# Altium footprint library J 接插件.PcbLib: 458 footprints (part 1 of 29)
Each footprint in its own frame and in the unit in brackets; x right, y up, seen from the top. Pads: shape width x height; smd on the part's side, far side on the other; paste and mask are expansions set on the pad; w line width, h text height; cw(c..) or ccw(c..) is an arc to the next point about the centre after c.
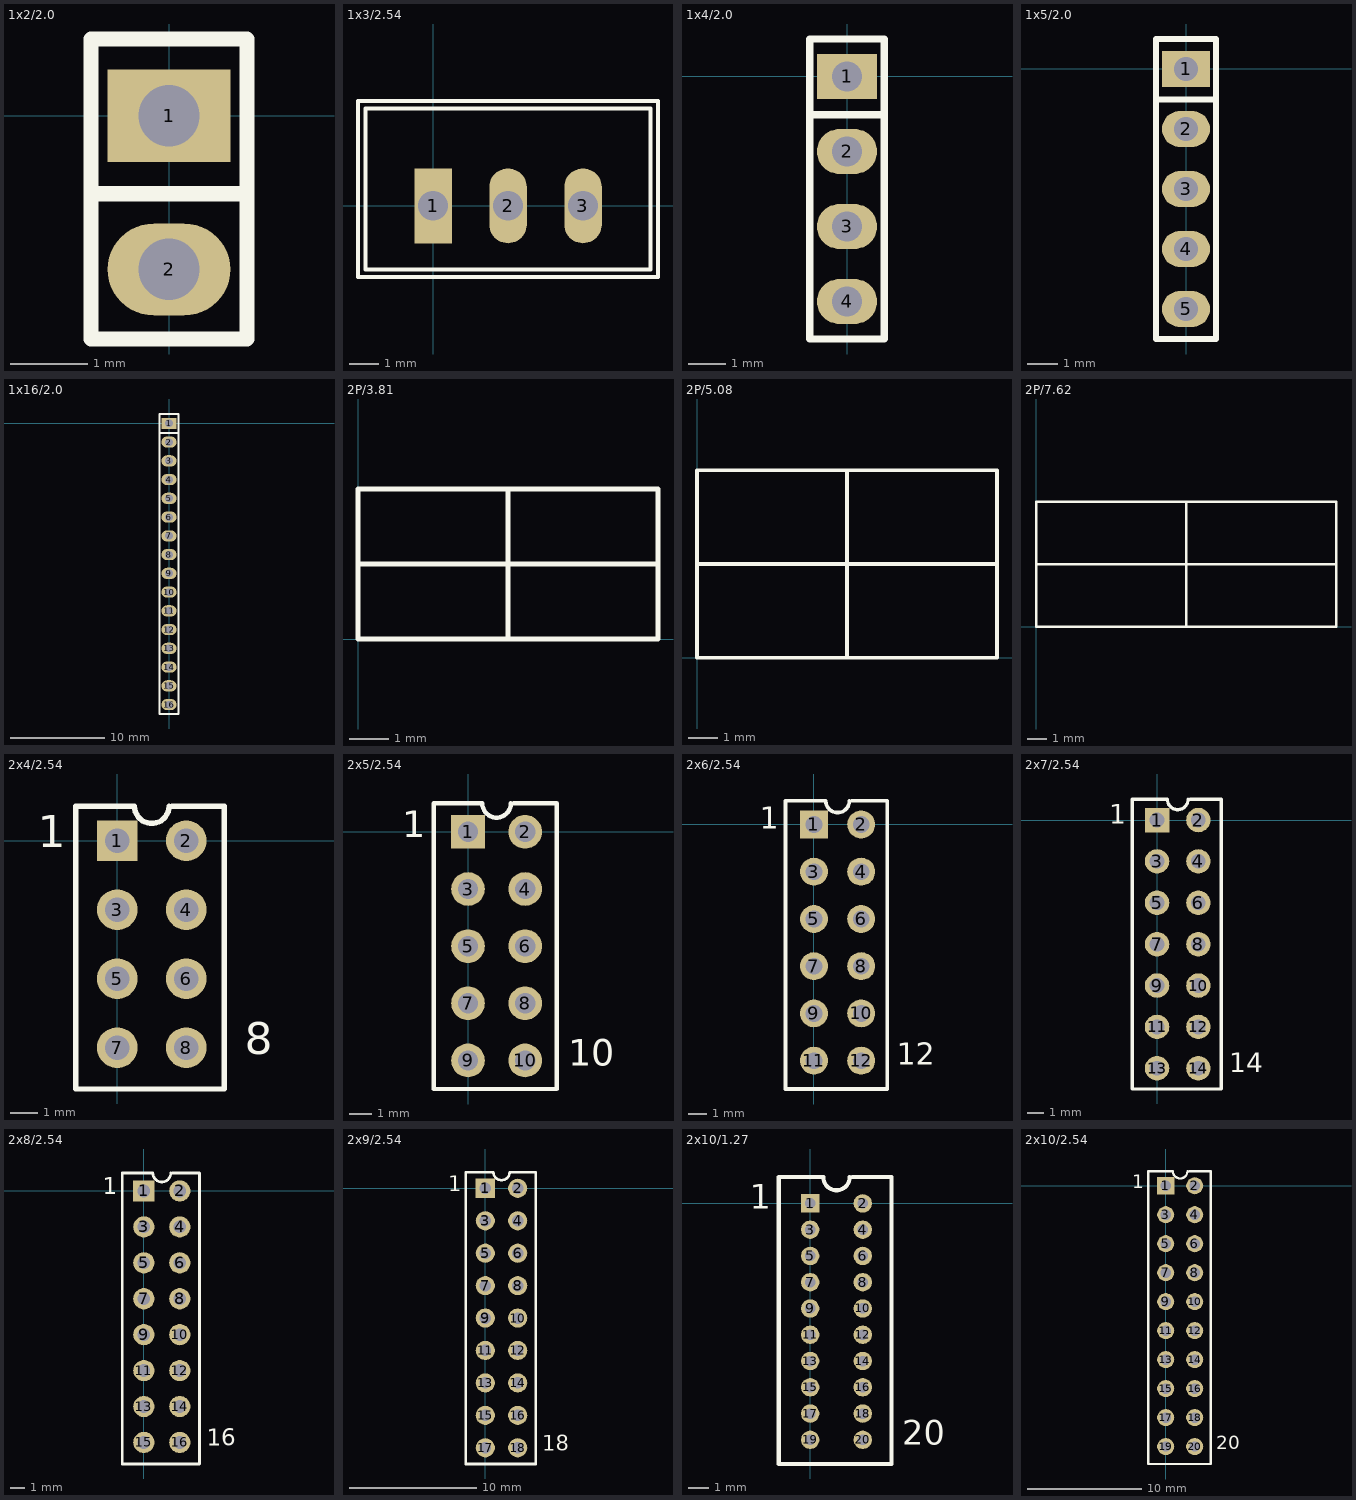
[diagram p0: the footprints below, top view; thin cyan lines are the x and y axes]

## 1x2/2.0 [mm] "直插，间距：2.0mm，PIN数：2"
pads (2):
  rect 1.6x1.2 hole 0.8: 1(0,0)
  oval 1.6x1.2 hole 0.8: 2(0,-2)
Top Overlay:
  lines w0.2: -1.016,-1.016 1.016,-1.016 ; -1.016,-2.905 1.016,-2.905 1.016,1 -1.016,1 -1.016,-2.905

## 1x3/2.54 [mm]
pads (3):
  rect 1.27x2.54 hole 1: 1(0,0)
  oval 1.27x2.54 hole 1: 2(2.54,0) 3(5.08,0)
Top Overlay:
  lines w0.127: -2.54,-2.413 -2.54,3.556 7.62,3.556 7.62,-2.413 -2.54,-2.413 ; -2.286,-2.159 -2.286,3.302 7.366,3.302 7.366,-2.159 -2.286,-2.159

## 1x4/2.0 [mm] "直插，间距：2.0mm，PIN数：4"
pads (4):
  rect 1.6x1.2 hole 0.8: 1(0,0)
  oval 1.6x1.2 hole 0.8: 2(0,-2) 3(0,-4) 4(0,-6)
Top Overlay:
  lines w0.2: -1,-1.016 1,-1.016 ; -1,-7 1,-7 1,1 -1,1 -1,-7

## 1x5/2.0 [mm] "直插，间距：2.0mm，PIN数：5"
pads (5):
  rect 1.6x1.2 hole 0.8: 1(0,0)
  oval 1.6x1.2 hole 0.8: 2(0,-2) 3(0,-4) 4(0,-6) 5(0,-8)
Top Overlay:
  lines w0.2: -1,-1.016 1,-1.016 ; -1,-9 -1,1 1,1 1,-9 -1,-9

## 1x16/2.0 [mm] "直插，间距：2.0mm，PIN数：16"
pads (16):
  rect 1.6x1.2 hole 0.8: 1(0,0)
  oval 1.6x1.2 hole 0.8: 2(0,-2) 3(0,-4) 4(0,-6) 5(0,-8) 6(0,-10) 7(0,-12) 8(0,-14) 9(0,-16) 10(0,-18) 11(0,-20) 12(0,-22) 13(0,-24) 14(0,-26) 15(0,-28) 16(0,-30)
Top Overlay:
  lines w0.2: -1,-1.016 1,-1.016 ; -1,-31 1,-31 1,1 -1,1 -1,-31

## 2P/3.81 [mil] "ͷ"
height 905.51
Top Overlay:
  lines w5: 0,75 300,75 ; 150,0 150,150 ; 0,0 0,150 300,150 300,0 0,0

## 2P/5.08 [mil] "ͷ"
height 393.7
Top Overlay:
  lines w5: 0,125 400,125 ; 200,0 200,250 ; 0,0 0,250 400,250 400,0 0,0

## 2P/7.62 [mil] "ͷ"
height 748.03
Top Overlay:
  lines w5: 0,125 600,125 ; 300,0 300,250 ; 0,0 0,250 600,250 600,0 0,0

## 2x4/2.54 [mm]
pads (8):
  rect 1.5x1.5 hole 0.9: 1(0,0)
  round 1.5 hole 0.9: 2(2.54,0) 3(0,-2.54) 4(2.54,-2.54) 5(0,-5.08) 6(2.54,-5.08) 7(0,-7.62) 8(2.54,-7.62)
Top Overlay:
  lines w0.2: 1.905,1.27 cw(c1.27,1.27) 0.635,1.27 -1.524,1.27 -1.524,-9.144 3.937,-9.144 3.937,1.27 2.032,1.27
  text "1" at -2.921,-0.635 h2.03
  text "8" at 4.699,-8.255 h2.03

## 2x5/2.54 [mm]
pads (10):
  rect 1.5x1.5 hole 0.9: 1(0,0)
  round 1.5 hole 0.9: 2(2.54,0) 3(0,-2.54) 4(2.54,-2.54) 5(0,-5.08) 6(2.54,-5.08) 7(0,-7.62) 8(2.54,-7.62) 9(0,-10.16) 10(2.54,-10.16)
Top Overlay:
  lines w0.2: 1.905,1.27 cw(c1.27,1.27) 0.635,1.27 -1.524,1.27 -1.524,-11.43 3.937,-11.43 3.937,1.27 2.032,1.27
  text "10" at 4.445,-10.795 h2.03
  text "1" at -2.921,-0.635 h2.03

## 2x6/2.54 [mm]
pads (12):
  rect 1.5x1.5 hole 0.9: 1(0,0)
  round 1.5 hole 0.9: 2(2.54,0) 3(0,-2.54) 4(2.54,-2.54) 5(0,-5.08) 6(2.54,-5.08) 7(0,-7.62) 8(2.54,-7.62) 9(0,-10.16) 10(2.54,-10.16) 11(0,-12.7) 12(2.54,-12.7)
Top Overlay:
  lines w0.2: 1.905,1.27 cw(c1.27,1.27) 0.635,1.27 -1.524,1.27 -1.524,-14.224 3.937,-14.224 3.937,1.27 2.032,1.27
  text "12" at 4.445,-13.335 h2.03
  text "1" at -2.921,-0.635 h2.03

## 2x7/2.54 [mm]
pads (14):
  rect 1.5x1.5 hole 0.9: 1(0,0)
  round 1.5 hole 0.9: 2(2.54,0) 3(0,-2.54) 4(2.54,-2.54) 5(0,-5.08) 6(2.54,-5.08) 7(0,-7.62) 8(2.54,-7.62) 9(0,-10.16) 10(2.54,-10.16) 11(0,-12.7) 12(2.54,-12.7) 13(0,-15.24) 14(2.54,-15.24)
Top Overlay:
  lines w0.2: 1.905,1.27 cw(c1.27,1.27) 0.635,1.27 -1.524,1.27 -1.524,-16.51 3.937,-16.51 3.937,1.27 2.032,1.27
  text "14" at 4.445,-15.875 h2.03
  text "1" at -2.921,-0.635 h2.03

## 2x8/2.54 [mm]
pads (16):
  rect 1.5x1.5 hole 0.9: 1(0,0)
  round 1.5 hole 0.9: 2(2.54,0) 3(0,-2.54) 4(2.54,-2.54) 5(0,-5.08) 6(2.54,-5.08) 7(0,-7.62) 8(2.54,-7.62) 9(0,-10.16) 10(2.54,-10.16) 11(0,-12.7) 12(2.54,-12.7) 13(0,-15.24) 14(2.54,-15.24) 15(0,-17.78) 16(2.54,-17.78)
Top Overlay:
  lines w0.2: 1.905,1.27 cw(c1.27,1.27) 0.635,1.27 -1.524,1.27 -1.524,-19.304 3.937,-19.304 3.937,1.27 2.032,1.27
  text "16" at 4.445,-18.415 h2.03
  text "1" at -2.921,-0.635 h2.03

## 2x9/2.54 [mm]
pads (18):
  rect 1.5x1.5 hole 0.9: 1(0,0)
  round 1.5 hole 0.9: 2(2.54,0) 3(0,-2.54) 4(2.54,-2.54) 5(0,-5.08) 6(2.54,-5.08) 7(0,-7.62) 8(2.54,-7.62) 9(0,-10.16) 10(2.54,-10.16) 11(0,-12.7) 12(2.54,-12.7) 13(0,-15.24) 14(2.54,-15.24) 15(0,-17.78) 16(2.54,-17.78) 17(0,-20.32) 18(2.54,-20.32)
Top Overlay:
  lines w0.2: 1.905,1.27 cw(c1.27,1.27) 0.635,1.27 -1.524,1.27 -1.524,-21.59 3.937,-21.59 3.937,1.27 2.032,1.27
  text "1" at -2.921,-0.635 h2.03
  text "18" at 4.445,-20.955 h2.03

## 2x10/1.27 [mil]
pads (20):
  rect 35x35 hole 20: 1(0,0)
  round 35 hole 20: 2(100,0) 3(0,-50) 4(100,-50) 5(0,-100) 6(100,-100) 7(0,-150) 8(100,-150) 9(0,-200) 10(100,-200) 11(0,-250) 12(100,-250) 13(0,-300) 14(100,-300) 15(0,-350) 16(100,-350) 17(0,-400) 18(100,-400) 19(0,-450) 20(100,-450)
Top Overlay:
  lines w7.87: 75,50 cw(c50,50) 25,50 -60,50 -60,-496 155,-496 155,50 80,50
  text "1" at -115,-25 h80
  text "20" at 175,-475 h80

## 2x10/2.54 [mm]
pads (20):
  rect 1.5x1.5 hole 0.9: 1(0,0)
  round 1.5 hole 0.9: 2(2.54,0) 3(0,-2.54) 4(2.54,-2.54) 5(0,-5.08) 6(2.54,-5.08) 7(0,-7.62) 8(2.54,-7.62) 9(0,-10.16) 10(2.54,-10.16) 11(0,-12.7) 12(2.54,-12.7) 13(0,-15.24) 14(2.54,-15.24) 15(0,-17.78) 16(2.54,-17.78) 17(0,-20.32) 18(2.54,-20.32) 19(0,-22.86) 20(2.54,-22.86)
Top Overlay:
  lines w0.2: 1.905,1.27 cw(c1.27,1.27) 0.635,1.27 -1.524,1.27 -1.524,-24.384 3.937,-24.384 3.937,1.27 2.032,1.27
  text "1" at -2.921,-0.635 h2.03
  text "20" at 4.445,-23.495 h2.03